# EAGLE library part BBB_HEADERS (library headers)
Beaglebone Black P9 P8 Pin Header 2x2x23
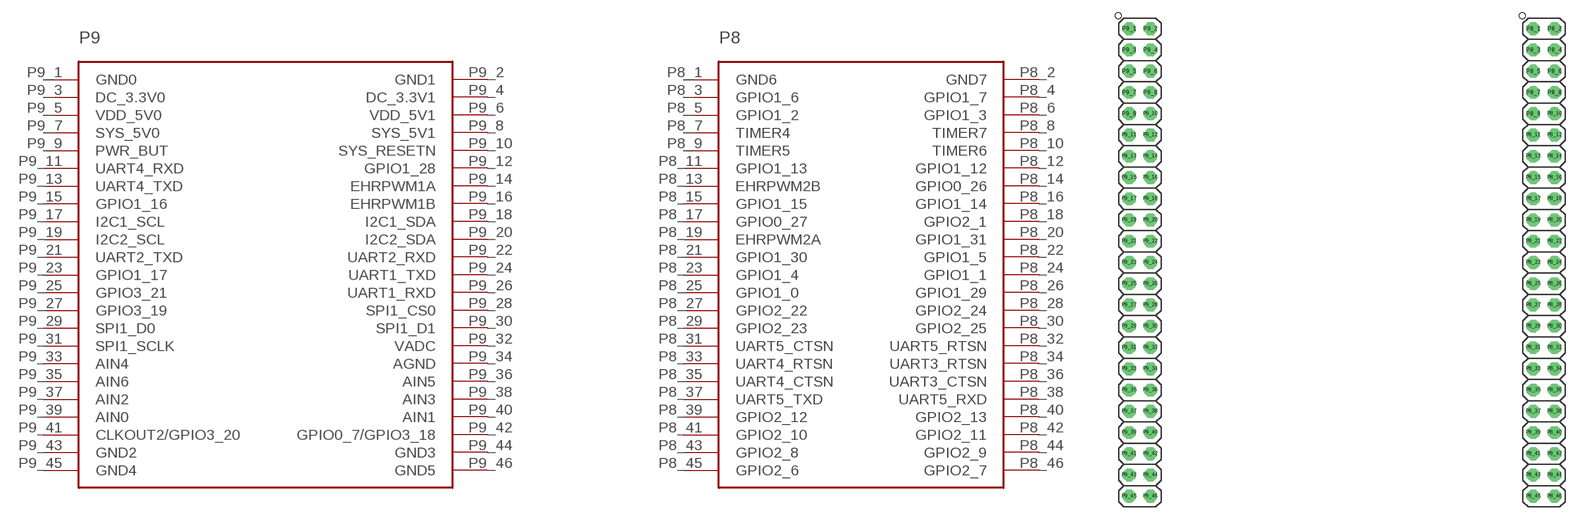
[diagram p16: symbol with the pads of BBB_HEADERS; footprint BBB_HEADERS]

Designator prefix -

## BBB_HEADERS  [BBB_HEADERS]
P8_1  GND6
P8_2  GND7
P8_3  GPIO1_6
P8_4  GPIO1_7
P8_5  GPIO1_2
P8_6  GPIO1_3
P8_7  TIMER4
P8_8  TIMER7
P8_9  TIMER5
P8_10  TIMER6
P8_11  GPIO1_13
P8_12  GPIO1_12
P8_13  EHRPWM2B
P8_14  GPIO0_26
P8_15  GPIO1_15
P8_16  GPIO1_14
P8_17  GPIO0_27
P8_18  GPIO2_1
P8_19  EHRPWM2A
P8_20  GPIO1_31
P8_21  GPIO1_30
P8_22  GPIO1_5
P8_23  GPIO1_4
P8_24  GPIO1_1
P8_25  GPIO1_0
P8_26  GPIO1_29
P8_27  GPIO2_22
P8_28  GPIO2_24
P8_29  GPIO2_23
P8_30  GPIO2_25
P8_31  UART5_CTSN
P8_32  UART5_RTSN
P8_33  UART4_RTSN
P8_34  UART3_RTSN
P8_35  UART4_CTSN
P8_36  UART3_CTSN
P8_37  UART5_TXD
P8_38  UART5_RXD
P8_39  GPIO2_12
P8_40  GPIO2_13
P8_41  GPIO2_10
P8_42  GPIO2_11
P8_43  GPIO2_8
P8_44  GPIO2_9
P8_45  GPIO2_6
P8_46  GPIO2_7
P9_1  GND0
P9_2  GND1
P9_3  DC_3.3V0
P9_4  DC_3.3V1
P9_5  VDD_5V0
P9_6  VDD_5V1
P9_7  SYS_5V0
P9_8  SYS_5V1
P9_9  PWR_BUT
P9_10  SYS_RESETN
P9_11  UART4_RXD
P9_12  GPIO1_28
P9_13  UART4_TXD
P9_14  EHRPWM1A
P9_15  GPIO1_16
P9_16  EHRPWM1B
P9_17  I2C1_SCL
P9_18  I2C1_SDA
P9_19  I2C2_SCL
P9_20  I2C2_SDA
P9_21  UART2_TXD
P9_22  UART2_RXD
P9_23  GPIO1_17
P9_24  UART1_TXD
P9_25  GPIO3_21
P9_26  UART1_RXD
P9_27  GPIO3_19
P9_28  SPI1_CS0
P9_29  SPI1_D0
P9_30  SPI1_D1
P9_31  SPI1_SCLK
P9_32  VADC
P9_33  AIN4
P9_34  AGND
P9_35  AIN6
P9_36  AIN5
P9_37  AIN2
P9_38  AIN3
P9_39  AIN0
P9_40  AIN1
P9_41  CLKOUT2/GPIO3_20
P9_42  GPIO0_7/GPIO3_18
P9_43  GND2
P9_44  GND3
P9_45  GND4
P9_46  GND5

## Footprint BBB_HEADERS (pad centres in mm)
Beaglebone Black P9 P8 pin header
drill 1.016 octagon: P8_1 49.53,57.15; P8_2 52.07,57.15; P8_3 49.53,54.61; P8_4 52.07,54.61; P8_5 49.53,52.07; P8_6 52.07,52.07; P8_7 49.53,49.53; P8_8 52.07,49.53; P8_9 49.53,46.99; P8_10 52.07,46.99; P8_11 49.53,44.45; P8_12 52.07,44.45; P8_13 49.53,41.91; P8_14 52.07,41.91; P8_15 49.53,39.37; P8_16 52.07,39.37; P8_17 49.53,36.83; P8_18 52.07,36.83; P8_19 49.53,34.29; P8_20 52.07,34.29; P8_21 49.53,31.75; P8_22 52.07,31.75; P8_23 49.53,29.21; P8_24 52.07,29.21; P8_25 49.53,26.67; P8_26 52.07,26.67; P8_27 49.53,24.13; P8_28 52.07,24.13; P8_29 49.53,21.59; P8_30 52.07,21.59; P8_31 49.53,19.05; P8_32 52.07,19.05; P8_33 49.53,16.51; P8_34 52.07,16.51; P8_35 49.53,13.97; P8_36 52.07,13.97; P8_37 49.53,11.43; P8_38 52.07,11.43; P8_39 49.53,8.89; P8_40 52.07,8.89; P8_41 49.53,6.35; P8_42 52.07,6.35; P8_43 49.53,3.81; P8_44 52.07,3.81; P8_45 49.53,1.27; P8_46 52.07,1.27; P9_1 1.27,57.15; P9_2 3.81,57.15; P9_3 1.27,54.61; P9_4 3.81,54.61; P9_5 1.27,52.07; P9_6 3.81,52.07; P9_7 1.27,49.53; P9_8 3.81,49.53; P9_9 1.27,46.99; P9_10 3.81,46.99; P9_11 1.27,44.45; P9_12 3.81,44.45; P9_13 1.27,41.91; P9_14 3.81,41.91; P9_15 1.27,39.37; P9_16 3.81,39.37; P9_17 1.27,36.83; P9_18 3.81,36.83; P9_19 1.27,34.29; P9_20 3.81,34.29; P9_21 1.27,31.75; P9_22 3.81,31.75; P9_23 1.27,29.21; P9_24 3.81,29.21; P9_25 1.27,26.67; P9_26 3.81,26.67; P9_27 1.27,24.13; P9_28 3.81,24.13; P9_29 1.27,21.59; P9_30 3.81,21.59; P9_31 1.27,19.05; P9_32 3.81,19.05; P9_33 1.27,16.51; P9_34 3.81,16.51; P9_35 1.27,13.97; P9_36 3.81,13.97; P9_37 1.27,11.43; P9_38 3.81,11.43; P9_39 1.27,8.89; P9_40 3.81,8.89; P9_41 1.27,6.35; P9_42 3.81,6.35; P9_43 1.27,3.81; P9_44 3.81,3.81; P9_45 1.27,1.27; P9_46 3.81,1.27